# EAGLE library part USB-MINIB (library hybridpi-connector)
USB MINIB Connector USB-M26FTR: Datasheet <http://www.on-shore.com/sites/default/files/manuals/USB-M2XFXX.pdf>
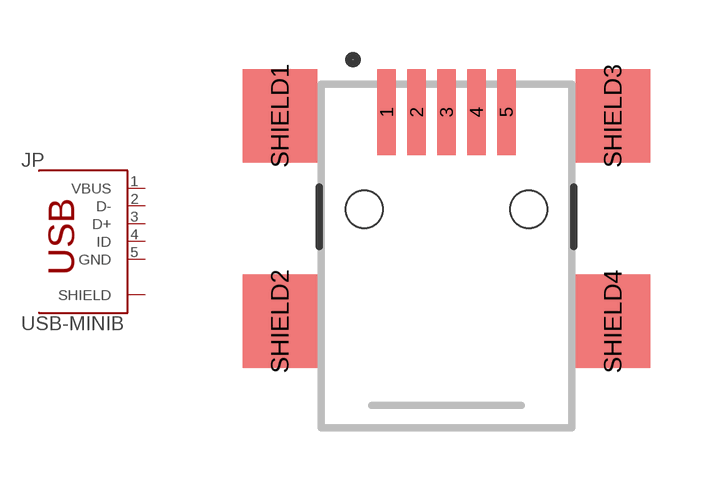
[diagram p0: symbol with the pads of USB-MINIB-M26FTR; footprint USB-MINIB-M26FTR]

Designator prefix JP

## USB-MINIB-M26FTR (EAGLEUP: USB-MINIB; VENDOR: DIGI-KEY; VENDOR_PN: ED2992CT-ND)  [USB-MINIB-M26FTR]
1  VBUS
2  D-
3  D+
4  ID
5  GND
SHIELD1  SHIELD
SHIELD2  SHIELD
SHIELD3  SHIELD
SHIELD4  SHIELD

## Footprint USB-MINIB-M26FTR (pad centres in mm)
smd 0.5 x 2.3: 1 -1.6,0.1; 2 -0.8,0.1; 3 0,0.1; 4 0.8,0.1; 5 1.6,0.1
smd 2 x 2.5: SHIELD1 -4.45,0; SHIELD2 -4.45,-5.5; SHIELD3 4.45,0; SHIELD4 4.45,-5.5
hole 1 at -2.2,-2.5
hole 1 at 2.2,-2.5